# Altium integrated library Semiconductors.IntLib: 6 symbols
Pins are listed as number, name and electrical type; pins without a type are passive.

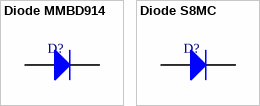
[diagram p0: symbols Diode MMBD914 to Diode S8MC]

## Diode MMBD914
designator D?  (value not drawn)
Standard Diode; Manufacturer Part No.: MMBD914LT1G; Vf: 1V; Imax: 200mA; Vreverse: 100V; Digi-Key Part No.: MMBD914LT1GOSCT-ND
footprint SOT-23 (Standard SOT-23)
pins: 1 A, 3 K

## Diode S8MC
designator D?  (value not drawn)
Standard Diode; Manufacturer Part No.: S8MC-13; Max Voltage: 1kV; Max Current: 8A; Digi-Key Part No.: S8MCDICT-ND
footprint S8MC Diode (S8MC 8A Diode)
pins: 1 A, 2 C


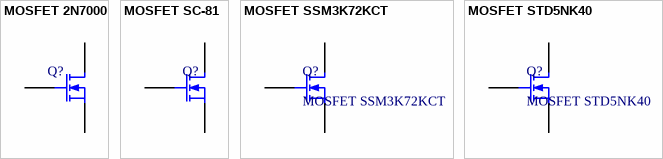
[diagram p1: symbols MOSFET 2N7000 to MOSFET STD5NK40]

## MOSFET 2N7000
designator Q?, comment N-Channel MOSFET  (value not drawn)
2N7000; Manufacturer Part No.: 2N7002-7-F; Idrain: 115mA; Digi-Key Part No.: 2N7002-FDICT-ND
footprint SOT-23 (Standard SOT-23)
pins: 1 D, 2 S, 3 G

## MOSFET SC-81
designator Q?  (value not drawn)
N-Channel MOSFET; Manufacturer Part No.: 3LN01SS-TL-E; Max. Vds: 30V; Max. Id: 0.15A; Digi-Key Part No.: 3LN01SS-TL-EOSCT-ND
footprint SC-81
pins: 1 G, 2 S, 3 D

## MOSFET SSM3K72KCT
designator Q?
N-Channel MOSFET; Manufacturer Part No.: SSM3K72KCT,L3F; Max. Vds: 60V; Max. Id: 0.4A; Digi-Key Part No.: SSM3K72KCTL3FCT-ND
footprint SOT-883
pins: 1 G, 2 S, 3 D

## MOSFET STD5NK40
designator Q?
N-Channel MOSFET; Manufacturer Part No.: STD5NK40ZT4; Max. Vds: 400V; Max. Id: 3A; Digi-Key Part No.: 497-2477-1-ND
footprint TO-252 (Standard TO-252)
pins: 1 G, 2 D, 3 S